# EAGLE library part PRO-MINI (library CustomPartsLibrary)
Arduion Pro Mini Clone V1.0 www.betemcu.cu
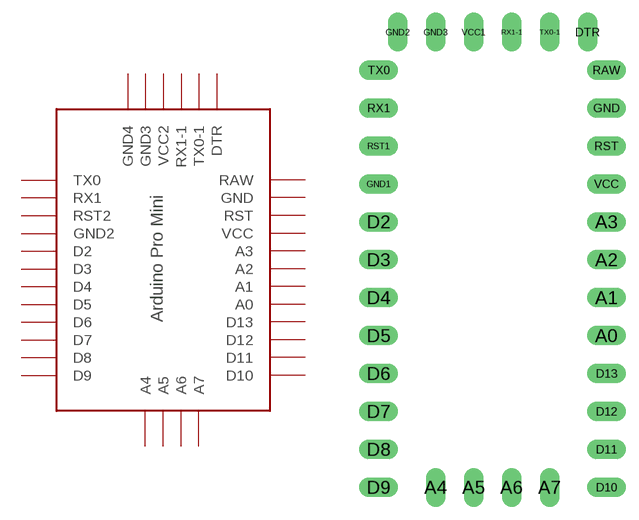
[diagram p0: symbol with the pads of PRO-MINI; footprint PRO-MINI]

Designator prefix -

## PRO-MINI  [PRO-MINI]
A0  A0
A1  A1
A2  A2
A3  A3
A4  A4
A5  A5
A6  A6
A7  A7
D2  D2
D3  D3
D4  D4
D5  D5
D6  D6
D7  D7
D8  D8
D9  D9
D10  D10
D11  D11
D12  D12
D13  D13
DTR  DTR
GND  GND  in
GND1  GND2
GND2  GND4
GND3  GND3
RAW  RAW  pwr
RST  RST
RST1  RST2
RX1  RX1
RX1-1  RX1-1
TX0  TX0
TX0-1  TX0-1
VCC  VCC
VCC1  VCC2

## Footprint PRO-MINI (pad centres in mm)
Arduino Pro Mini Clone
drill 0.8 long: A0 8.89,8.89; A1 8.89,11.43; A2 8.89,13.97; A3 8.89,16.51; A4 -2.54,-1.27; A5 0,-1.27; A6 2.54,-1.27; A7 5.08,-1.27; D2 -6.35,16.51; D3 -6.35,13.97; D4 -6.35,11.43; D5 -6.35,8.89; D6 -6.35,6.35; D7 -6.35,3.81; D8 -6.35,1.27; D9 -6.35,-1.27; D10 8.89,-1.27; D11 8.89,1.27; D12 8.89,3.81; D13 8.89,6.35; DTR 7.62,29.21; GND 8.89,24.13; GND1 -6.35,19.05; GND2 -5.08,29.21; GND3 -2.54,29.21; RAW 8.89,26.67; RST 8.89,21.59; RST1 -6.35,21.59; RX1 -6.35,24.13; RX1-1 2.54,29.21; TX0 -6.35,26.67; TX0-1 5.08,29.21; VCC 8.89,19.05; VCC1 0,29.21